# Altium footprint library QFP.PcbLib: 6 footprints
Each footprint in its own frame and in the unit in brackets; x right, y up, seen from the top. Pads: shape width x height; smd on the part's side, far side on the other; paste and mask are expansions set on the pad; w line width, h text height; cw(c..) or ccw(c..) is an arc to the next point about the centre after c.
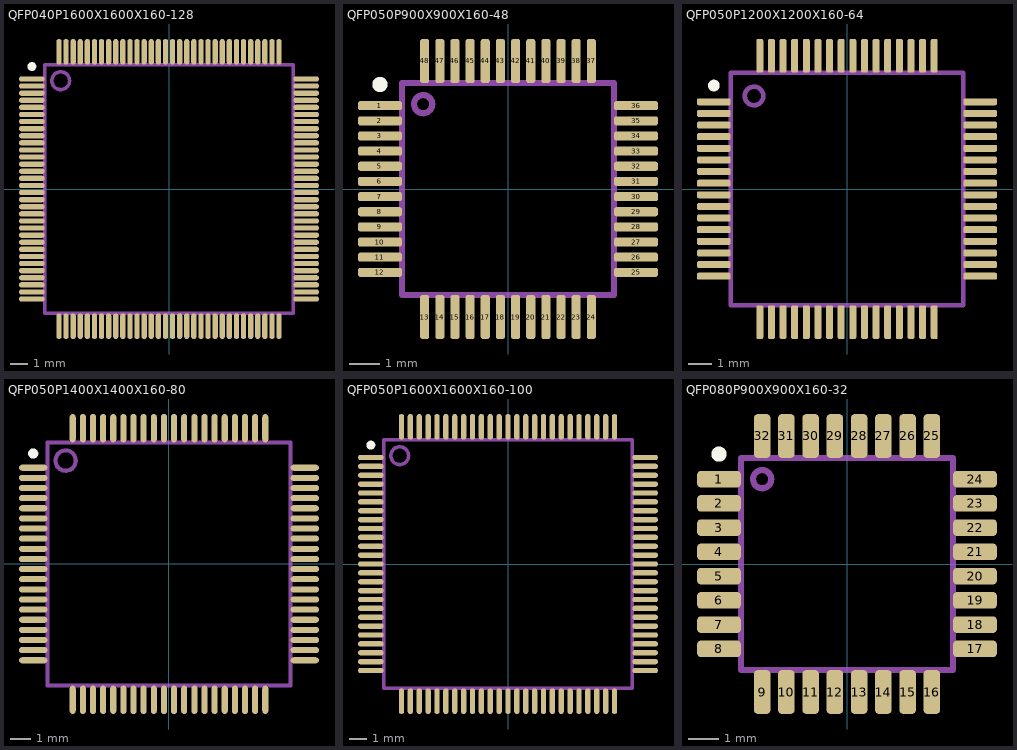
[diagram p0: the footprints below, top view; thin cyan lines are the x and y axes]

## QFP040P1600X1600X160-128 [mm] "QFP, 128-Leads, Body 14.00x14.00mm, Pitch 0.40mm, IPC Medium Density"
height 1.6
pads (128):
  oval 1.45x0.3 smd: 1(-7.725,6.2) 2(-7.725,5.8) 3(-7.725,5.4) 4(-7.725,5) 5(-7.725,4.6) 6(-7.725,4.2) 7(-7.725,3.8) 8(-7.725,3.4) 9(-7.725,3) 10(-7.725,2.6) 11(-7.725,2.2) 12(-7.725,1.8) 13(-7.725,1.4) 14(-7.725,1) 15(-7.725,0.6) 16(-7.725,0.2) 17(-7.725,-0.2) 18(-7.725,-0.6) 19(-7.725,-1) 20(-7.725,-1.4) 21(-7.725,-1.8) 22(-7.725,-2.2) 23(-7.725,-2.6) 24(-7.725,-3) 25(-7.725,-3.4) 26(-7.725,-3.8) 27(-7.725,-4.2) 28(-7.725,-4.6) 29(-7.725,-5) 30(-7.725,-5.4) 31(-7.725,-5.8) 32(-7.725,-6.2) 65(7.725,-6.2) 66(7.725,-5.8) 67(7.725,-5.4) 68(7.725,-5) 69(7.725,-4.6) 70(7.725,-4.2) 71(7.725,-3.8) 72(7.725,-3.4) 73(7.725,-3) 74(7.725,-2.6) 75(7.725,-2.2) 76(7.725,-1.8) 77(7.725,-1.4) 78(7.725,-1) 79(7.725,-0.6) 80(7.725,-0.2) 81(7.725,0.2) 82(7.725,0.6) 83(7.725,1) 84(7.725,1.4) 85(7.725,1.8) 86(7.725,2.2) 87(7.725,2.6) 88(7.725,3) 89(7.725,3.4) 90(7.725,3.8) 91(7.725,4.2) 92(7.725,4.6) 93(7.725,5) 94(7.725,5.4) 95(7.725,5.8) 96(7.725,6.2)
  oval 0.3x1.45 smd: 33(-6.2,-7.725) 34(-5.8,-7.725) 35(-5.4,-7.725) 36(-5,-7.725) 37(-4.6,-7.725) 38(-4.2,-7.725) 39(-3.8,-7.725) 40(-3.4,-7.725) 41(-3,-7.725) 42(-2.6,-7.725) 43(-2.2,-7.725) 44(-1.8,-7.725) 45(-1.4,-7.725) 46(-1,-7.725) 47(-0.6,-7.725) 48(-0.2,-7.725) 49(0.2,-7.725) 50(0.6,-7.725) 51(1,-7.725) 52(1.4,-7.725) 53(1.8,-7.725) 54(2.2,-7.725) 55(2.6,-7.725) 56(3,-7.725) 57(3.4,-7.725) 58(3.8,-7.725) 59(4.2,-7.725) 60(4.6,-7.725) 61(5,-7.725) 62(5.4,-7.725) 63(5.8,-7.725) 64(6.2,-7.725) 97(6.2,7.725) 98(5.8,7.725) 99(5.4,7.725) 100(5,7.725) 101(4.6,7.725) 102(4.2,7.725) 103(3.8,7.725) 104(3.4,7.725) 105(3,7.725) 106(2.6,7.725) 107(2.2,7.725) 108(1.8,7.725) 109(1.4,7.725) 110(1,7.725) 111(0.6,7.725) 112(0.2,7.725) 113(-0.2,7.725) 114(-0.6,7.725) 115(-1,7.725) 116(-1.4,7.725) 117(-1.8,7.725) 118(-2.2,7.725) 119(-2.6,7.725) 120(-3,7.725) 121(-3.4,7.725) 122(-3.8,7.725) 123(-4.2,7.725) 124(-4.6,7.725) 125(-5,7.725) 126(-5.4,7.725) 127(-5.8,7.725) 128(-6.2,7.725)
Top Overlay:
  circle w0.25: c-7.725,6.9 r0.125
Top Assembly:
  circle w0.2: c-6.1,6.1 r0.5
  lines w0.2: -7,-7 7,-7 7,7 -7,7 -7,-7
3D body "QFP040P1600X1600X160-128.step": height 1.6, standoff 0, extent -8,-8 8,8

## QFP050P900X900X160-48 [mm] "QFP, 48-Leads, Body 7.00x7.00mm, Pitch 0.50mm, IPC Medium Density"
height 1.6
pads (48):
  rrect50% 1.45x0.3 smd: 1(-4.225,2.75) 2(-4.225,2.25) 3(-4.225,1.75) 4(-4.225,1.25) 5(-4.225,0.75) 6(-4.225,0.25) 7(-4.225,-0.25) 8(-4.225,-0.75) 9(-4.225,-1.25) 10(-4.225,-1.75) 11(-4.225,-2.25) 12(-4.225,-2.75) 25(4.225,-2.75) 26(4.225,-2.25) 27(4.225,-1.75) 28(4.225,-1.25) 29(4.225,-0.75) 30(4.225,-0.25) 31(4.225,0.25) 32(4.225,0.75) 33(4.225,1.25) 34(4.225,1.75) 35(4.225,2.25) 36(4.225,2.75)
  rrect50% 0.3x1.45 smd: 13(-2.75,-4.225) 14(-2.25,-4.225) 15(-1.75,-4.225) 16(-1.25,-4.225) 17(-0.75,-4.225) 18(-0.25,-4.225) 19(0.25,-4.225) 20(0.75,-4.225) 21(1.25,-4.225) 22(1.75,-4.225) 23(2.25,-4.225) 24(2.75,-4.225) 37(2.75,4.225) 38(2.25,4.225) 39(1.75,4.225) 40(1.25,4.225) 41(0.75,4.225) 42(0.25,4.225) 43(-0.25,4.225) 44(-0.75,4.225) 45(-1.25,4.225) 46(-1.75,4.225) 47(-2.25,4.225) 48(-2.75,4.225)
Top Overlay:
  circle w0.25: c-4.225,3.45 r0.125
Top Assembly:
  circle w0.2: c-2.8,2.8 r0.3
  lines w0.2: -3.5,-3.5 3.5,-3.5 3.5,3.5 -3.5,3.5 -3.5,-3.5
3D body "QFP050P900X900X160-48.step": height 1.6, standoff 0, extent -4.5,-4.5 4.5,4.5

## QFP050P1200X1200X160-64 [mm] "QFP, 64-Leads, Body 10.00x10.00mm, Pitch 0.50mm, IPC Medium Density"
height 1.6
pads (64):
  rrect50% 1.45x0.3 smd: 1(-5.725,3.75) 2(-5.725,3.25) 3(-5.725,2.75) 4(-5.725,2.25) 5(-5.725,1.75) 6(-5.725,1.25) 7(-5.725,0.75) 8(-5.725,0.25) 9(-5.725,-0.25) 10(-5.725,-0.75) 11(-5.725,-1.25) 12(-5.725,-1.75) 13(-5.725,-2.25) 14(-5.725,-2.75) 15(-5.725,-3.25) 16(-5.725,-3.75) 33(5.725,-3.75) 34(5.725,-3.25) 35(5.725,-2.75) 36(5.725,-2.25) 37(5.725,-1.75) 38(5.725,-1.25) 39(5.725,-0.75) 40(5.725,-0.25) 41(5.725,0.25) 42(5.725,0.75) 43(5.725,1.25) 44(5.725,1.75) 45(5.725,2.25) 46(5.725,2.75) 47(5.725,3.25) 48(5.725,3.75)
  rrect50% 0.3x1.45 smd: 17(-3.75,-5.725) 18(-3.25,-5.725) 19(-2.75,-5.725) 20(-2.25,-5.725) 21(-1.75,-5.725) 22(-1.25,-5.725) 23(-0.75,-5.725) 24(-0.25,-5.725) 25(0.25,-5.725) 26(0.75,-5.725) 27(1.25,-5.725) 28(1.75,-5.725) 29(2.25,-5.725) 30(2.75,-5.725) 31(3.25,-5.725) 32(3.75,-5.725) 49(3.75,5.725) 50(3.25,5.725) 51(2.75,5.725) 52(2.25,5.725) 53(1.75,5.725) 54(1.25,5.725) 55(0.75,5.725) 56(0.25,5.725) 57(-0.25,5.725) 58(-0.75,5.725) 59(-1.25,5.725) 60(-1.75,5.725) 61(-2.25,5.725) 62(-2.75,5.725) 63(-3.25,5.725) 64(-3.75,5.725)
Top Overlay:
  circle w0.25: c-5.725,4.45 r0.125
Top Assembly:
  circle w0.2: c-4,4 r0.4
  lines w0.2: -5,-5 5,-5 5,5 -5,5 -5,-5
3D body "QFP050P1200X1200X160-64.step": height 1.6, standoff 0, extent -6,-6 6,6

## QFP050P1400X1400X160-80 [mm] "QFP, 80-Leads, Body 12.00x12.00mm, Pitch 0.50mm, IPC Medium Density"
height 1.6
pads (80):
  oval 1.4x0.3 smd: 1(-6.7,4.75) 2(-6.7,4.25) 3(-6.7,3.75) 4(-6.7,3.25) 5(-6.7,2.75) 6(-6.7,2.25) 7(-6.7,1.75) 8(-6.7,1.25) 9(-6.7,0.75) 10(-6.7,0.25) 11(-6.7,-0.25) 12(-6.7,-0.75) 13(-6.7,-1.25) 14(-6.7,-1.75) 15(-6.7,-2.25) 16(-6.7,-2.75) 17(-6.7,-3.25) 18(-6.7,-3.75) 19(-6.7,-4.25) 20(-6.7,-4.75) 41(6.7,-4.75) 42(6.7,-4.25) 43(6.7,-3.75) 44(6.7,-3.25) 45(6.7,-2.75) 46(6.7,-2.25) 47(6.7,-1.75) 48(6.7,-1.25) 49(6.7,-0.75) 50(6.7,-0.25) 51(6.7,0.25) 52(6.7,0.75) 53(6.7,1.25) 54(6.7,1.75) 55(6.7,2.25) 56(6.7,2.75) 57(6.7,3.25) 58(6.7,3.75) 59(6.7,4.25) 60(6.7,4.75)
  oval 0.3x1.4 smd: 21(-4.75,-6.7) 22(-4.25,-6.7) 23(-3.75,-6.7) 24(-3.25,-6.7) 25(-2.75,-6.7) 26(-2.25,-6.7) 27(-1.75,-6.7) 28(-1.25,-6.7) 29(-0.75,-6.7) 30(-0.25,-6.7) 31(0.25,-6.7) 32(0.75,-6.7) 33(1.25,-6.7) 34(1.75,-6.7) 35(2.25,-6.7) 36(2.75,-6.7) 37(3.25,-6.7) 38(3.75,-6.7) 39(4.25,-6.7) 40(4.75,-6.7) 61(4.75,6.7) 62(4.25,6.7) 63(3.75,6.7) 64(3.25,6.7) 65(2.75,6.7) 66(2.25,6.7) 67(1.75,6.7) 68(1.25,6.7) 69(0.75,6.7) 70(0.25,6.7) 71(-0.25,6.7) 72(-0.75,6.7) 73(-1.25,6.7) 74(-1.75,6.7) 75(-2.25,6.7) 76(-2.75,6.7) 77(-3.25,6.7) 78(-3.75,6.7) 79(-4.25,6.7) 80(-4.75,6.7)
Top Overlay:
  circle w0.25: c-6.7,5.45 r0.125
Top Assembly:
  circle w0.2: c-5.1,5.1 r0.5
  lines w0.2: -6,-6 6,-6 6,6 -6,6 -6,-6
3D body "QFP050P1400X1400X160-80.step": height 1.6, standoff 0, extent -7,-7 7,7

## QFP050P1600X1600X160-100 [mm] "QFP, 100-Leads, Body 14.00x14.00mm, Pitch 0.50mm, IPC Medium Density"
height 1.6
pads (100):
  oval 1.45x0.3 smd: 1(-7.725,6) 2(-7.725,5.5) 3(-7.725,5) 4(-7.725,4.5) 5(-7.725,4) 6(-7.725,3.5) 7(-7.725,3) 8(-7.725,2.5) 9(-7.725,2) 10(-7.725,1.5) 11(-7.725,1) 12(-7.725,0.5) 13(-7.725,0) 14(-7.725,-0.5) 15(-7.725,-1) 16(-7.725,-1.5) 17(-7.725,-2) 18(-7.725,-2.5) 19(-7.725,-3) 20(-7.725,-3.5) 21(-7.725,-4) 22(-7.725,-4.5) 23(-7.725,-5) 24(-7.725,-5.5) 25(-7.725,-6) 51(7.725,-6) 52(7.725,-5.5) 53(7.725,-5) 54(7.725,-4.5) 55(7.725,-4) 56(7.725,-3.5) 57(7.725,-3) 58(7.725,-2.5) 59(7.725,-2) 60(7.725,-1.5) 61(7.725,-1) 62(7.725,-0.5) 63(7.725,0) 64(7.725,0.5) 65(7.725,1) 66(7.725,1.5) 67(7.725,2) 68(7.725,2.5) 69(7.725,3) 70(7.725,3.5) 71(7.725,4) 72(7.725,4.5) 73(7.725,5) 74(7.725,5.5) 75(7.725,6)
  oval 0.3x1.45 smd: 26(-6,-7.725) 27(-5.5,-7.725) 28(-5,-7.725) 29(-4.5,-7.725) 30(-4,-7.725) 31(-3.5,-7.725) 32(-3,-7.725) 33(-2.5,-7.725) 34(-2,-7.725) 35(-1.5,-7.725) 36(-1,-7.725) 37(-0.5,-7.725) 38(0,-7.725) 39(0.5,-7.725) 40(1,-7.725) 41(1.5,-7.725) 42(2,-7.725) 43(2.5,-7.725) 44(3,-7.725) 45(3.5,-7.725) 46(4,-7.725) 47(4.5,-7.725) 48(5,-7.725) 49(5.5,-7.725) 50(6,-7.725) 76(6,7.725) 77(5.5,7.725) 78(5,7.725) 79(4.5,7.725) 80(4,7.725) 81(3.5,7.725) 82(3,7.725) 83(2.5,7.725) 84(2,7.725) 85(1.5,7.725) 86(1,7.725) 87(0.5,7.725) 88(0,7.725) 89(-0.5,7.725) 90(-1,7.725) 91(-1.5,7.725) 92(-2,7.725) 93(-2.5,7.725) 94(-3,7.725) 95(-3.5,7.725) 96(-4,7.725) 97(-4.5,7.725) 98(-5,7.725) 99(-5.5,7.725) 100(-6,7.725)
Top Overlay:
  circle w0.25: c-7.725,6.7 r0.125
Top Assembly:
  circle w0.2: c-6.1,6.1 r0.5
  lines w0.2: -7,-7 7,-7 7,7 -7,7 -7,-7
3D body "QFP050P1600X1600X160-100.step": height 1.6, standoff 0, extent -8,-8 8,8

## QFP080P900X900X160-32 [mm] "QFP, 32-Leads, Body 7.00x7.00mm, Pitch 0.80mm, IPC Medium Density"
height 1.6
pads (32):
  rrect50% 1.45x0.55 smd: 1(-4.225,2.8) 2(-4.225,2) 3(-4.225,1.2) 4(-4.225,0.4) 5(-4.225,-0.4) 6(-4.225,-1.2) 7(-4.225,-2) 8(-4.225,-2.8) 17(4.225,-2.8) 18(4.225,-2) 19(4.225,-1.2) 20(4.225,-0.4) 21(4.225,0.4) 22(4.225,1.2) 23(4.225,2) 24(4.225,2.8)
  rrect50% 0.55x1.45 smd: 9(-2.8,-4.225) 10(-2,-4.225) 11(-1.2,-4.225) 12(-0.4,-4.225) 13(0.4,-4.225) 14(1.2,-4.225) 15(2,-4.225) 16(2.8,-4.225) 25(2.8,4.225) 26(2,4.225) 27(1.2,4.225) 28(0.4,4.225) 29(-0.4,4.225) 30(-1.2,4.225) 31(-2,4.225) 32(-2.8,4.225)
Top Overlay:
  circle w0.25: c-4.225,3.625 r0.125
Top Assembly:
  circle w0.2: c-2.8,2.8 r0.3
  lines w0.2: -3.5,-3.5 3.5,-3.5 3.5,3.5 -3.5,3.5 -3.5,-3.5
3D body "TQFP80P900X900X160-32N.step": height 1.6, standoff 0, extent -4.5,-4.5 4.5,4.5